# Altium schematic symbol library smoothie-lib.SchLib: 9 symbols
Pins are listed as number, name and electrical type; pins without a type are passive.

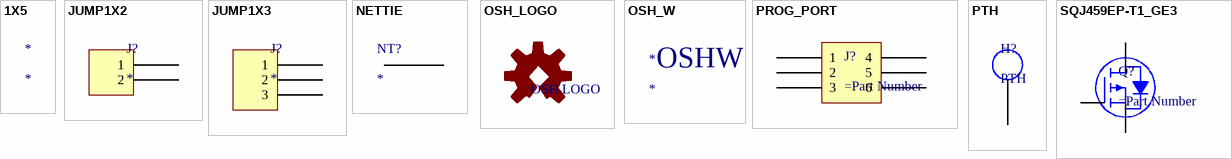
[diagram p0: symbols 1X5 to SQJ459EP-T1_GE3]

## 1X5
designator *

## JUMP1X2
designator J?
footprint JUMP1X2 (JUMPER, 1X3)
pins: 1, 2

## JUMP1X3
designator J?
footprint JUMP1X3 (JUMPER, 1X3)
pins: 1, 2, 3

## NETTIE
designator NT?  (net tie, no BOM)
Net tie point.
footprint NETTIE (NETTIE .5mm)
pins: 1, 2

## OSH_LOGO
designator ?, comment OSH LOGO  (no BOM)
Open source hardware logo
footprint OSH_LOGO

## OSH_W
designator *  (no BOM)
footprint OSH_W
text: OSHW

## PROG_PORT
designator J?
2x3 programming port
footprint PROG_PORT (2X3 PROGRAMMING PORT)
pins: 1, 2, 3, 4, 5, 6

## PTH
designator H?  (no BOM)
Plated thru-hole.
footprint PTH-M3.5 (Free fit for M3.5 screw)
pins: 1

## SQJ459EP-T1_GE3
designator Q?
footprint POWER PAK SO-8
pins: 1 S, 2 S, 3 S, 4 G, 5 D